# Altium integrated library Resistors 2512.IntLib: 3 symbols
Pins are listed as number, name and electrical type; pins without a type are passive.

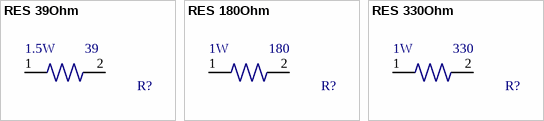
[diagram p0: symbols RES 39Ohm to RES 330Ohm]

## RES 39Ohm
designator R?, comment Resistence: 39  Power: 1.5W  (hidden comment: RES 2512)
39 Ohms ±1% 1.5W Chip Resistor 2512 (6432 Metric) Automotive AEC-Q200, Pulse Withstanding Thick Film; Manufacturer 1: Vishay Dale; Manufacturer 1 PN: CRCW251239R0FKEGHP; ComponentLink1Description: Datasheet; ComponentLink1URL: http://www.vishay.com/docs/20043/crcwhpe3.pdf; Digikey PN: 541-39.0RCT-ND; Mouser PN: CRCW251239R0FKEGHP
footprint RES SMD 39 OHM 1% 1.5W 2512 (39 Ohms ±1% 1.5W Chip Resistor 2512 (6432 Metric) Automotive AEC-Q200, Pulse Withstanding Thick Film)
pins: 1, 2

## RES 180Ohm
designator R?, comment Resistence: 180  Power: 1W  (hidden comment: RES 2512)
180 Ohms ±5% 1W Chip Resistor 2512 (6432 Metric) Automotive AEC-Q200 Thick Film; Manufacturer 1: Vishay Dale; Manufacturer 1 PN: CRCW2512180RJNEG; ComponentLink1Description: Datasheet; ComponentLink1URL: http://www.vishay.com/docs/20043/crcwhpe3.pdf; Digikey PN: 541-180XCT-ND; Mouser PN: 71-CRCW2512J-180-E3
footprint RES SMD 180 OHM 1% 1W 2512 (180 Ohms ±5% 1W Chip Resistor 2512 (6432 Metric) Automotive AEC-Q200 Thick Film)
pins: 1, 2

## RES 330Ohm
designator R?, comment Resistence: 330  Power: 1W  (hidden comment: RES 2512)
330 Ohms ±5% 1W Chip Resistor 2512 (6432 Metric) Automotive AEC-Q200 Thick Film; Manufacturer 1: Vishay Dale; Manufacturer 1 PN: CRCW2512330RJNEG; ComponentLink1Description: Datasheet; ComponentLink1URL: http://www.vishay.com/docs/20043/crcwhpe3.pdf; Digikey PN: 541-330XCT-ND; Mouser PN: 71-CRCW2512J-330-E3
footprint RES SMD 330 OHM 1% 1W 2512 (330 Ohms ±5% 1W Chip Resistor 2512 (6432 Metric) Automotive AEC-Q200 Thick Film)
pins: 1, 2